# Altium schematic symbol library TP4056_Module.SchLib: 1 symbol
Pins are listed as number, name and electrical type; pins without a type are passive.

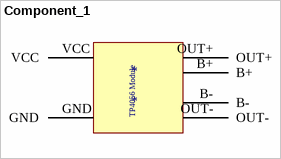
[diagram p0: symbol Component_1]

## Component_1
designator *
pins: B+, B-, GND, OUT+, OUT-, VCC
text: TP4056 Module